# Altium footprint library LCRU01602DSFAWH.PcbLib: 1 footprints
Each footprint in its own frame and in the unit in brackets; x right, y up, seen from the top. Pads: shape width x height; smd on the part's side, far side on the other; paste and mask are expansions set on the pad; w line width, h text height; cw(c..) or ccw(c..) is an arc to the next point about the centre after c.
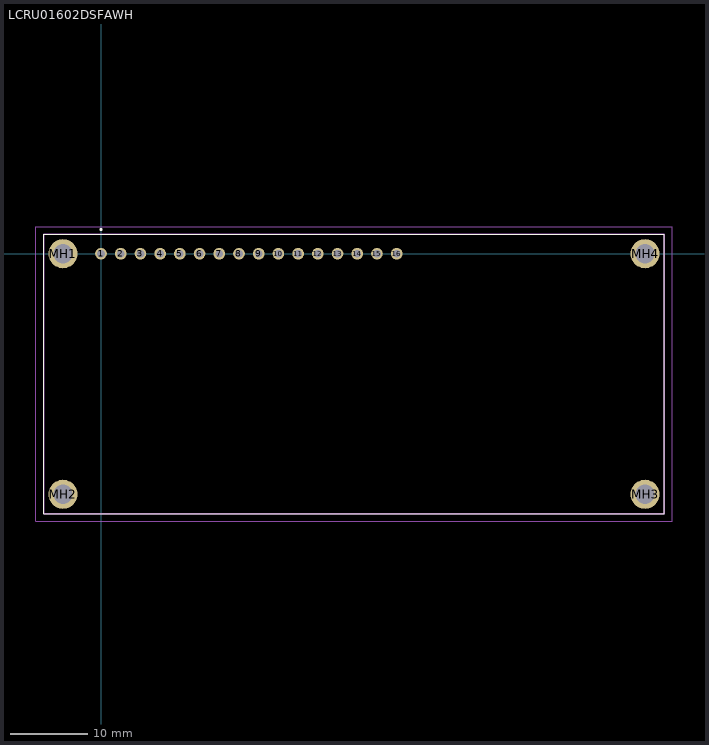
[diagram p0: the footprint, top view; thin cyan lines are the x and y axes]

## LCRU01602DSFAWH [mm]
pads (20):
  round 1.5 hole 1: 1(0,0) 2(2.54,0) 3(5.08,0) 4(7.62,0) 5(10.16,0) 6(12.7,0) 7(15.24,0) 8(17.78,0) 9(20.32,0) 10(22.86,0) 11(25.4,0) 12(27.94,0) 13(30.48,0) 14(33.02,0) 15(35.56,0) 16(38.1,0)
  round 3.75 hole 2.5: MH1(-4.9,0) MH2(-4.9,-31) MH3(70.1,-31) MH4(70.1,0)
Top Overlay:
  lines w0.1: -7.4,-33.5 -7.4,2.5 72.6,2.5 72.6,-33.5 -7.4,-33.5
  lines w0.2: -0.1,3.1 cw(c0,3.1) 0.1,3.1 cw(c0,3.1) -0.1,3.1
Mechanical 15:
  lines w0.2: -7.4,-33.5 -7.4,2.5 72.6,2.5 72.6,-33.5 -7.4,-33.5
Mechanical 20:
  lines w0.1: -8.4,-34.5 -8.4,3.5 73.6,3.5 73.6,-34.5 -8.4,-34.5
3D body "LCR-U01602DSF_AWH.stp": height 5.8, standoff -4.65, extent -10,-3.376 10,3.376